# Altium footprint library BGA486N50P27X27_1400X1400X125N.PcbLib: 1 footprints
Each footprint in its own frame and in the unit in brackets; x right, y up, seen from the top. Pads: shape width x height; smd on the part's side, far side on the other; paste and mask are expansions set on the pad; w line width, h text height; cw(c..) or ccw(c..) is an arc to the next point about the centre after c.
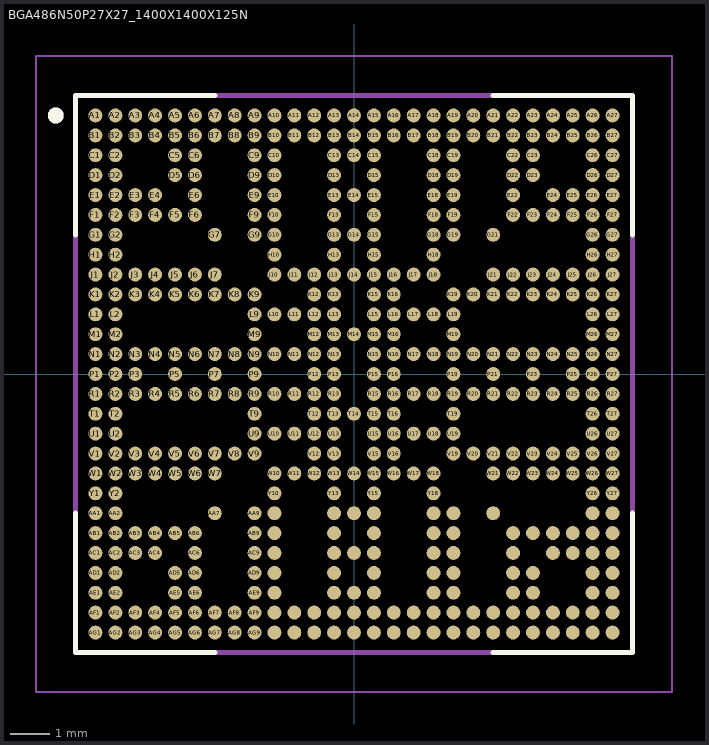
[diagram p0: the footprint, top view; thin cyan lines are the x and y axes]

## BGA486N50P27X27_1400X1400X125N [mm]
pads (486):
  round 0.35 smd: A1(-6.5,6.5) A2(-6,6.5) A3(-5.5,6.5) A4(-5,6.5) A5(-4.5,6.5) A6(-4,6.5) A7(-3.5,6.5) A8(-3,6.5) A9(-2.5,6.5) A10(-2,6.5) A11(-1.5,6.5) A12(-1,6.5) A13(-0.5,6.5) A14(0,6.5) A15(0.5,6.5) A16(1,6.5) A17(1.5,6.5) A18(2,6.5) A19(2.5,6.5) A20(3,6.5) A21(3.5,6.5) A22(4,6.5) A23(4.5,6.5) A24(5,6.5) A25(5.5,6.5) A26(6,6.5) A27(6.5,6.5) AA1(-6.5,-3.5) AA2(-6,-3.5) AA7(-3.5,-3.5) AA9(-2.5,-3.5) AA10(-2,-3.5) AA13(-0.5,-3.5) AA14(0,-3.5) AA15(0.5,-3.5) AA18(2,-3.5) AA19(2.5,-3.5) AA21(3.5,-3.5) AA26(6,-3.5) AA27(6.5,-3.5) AB1(-6.5,-4) AB2(-6,-4) AB3(-5.5,-4) AB4(-5,-4) AB5(-4.5,-4) AB6(-4,-4) AB9(-2.5,-4) AB10(-2,-4) AB13(-0.5,-4) AB15(0.5,-4) AB18(2,-4) AB19(2.5,-4) AB22(4,-4) AB23(4.5,-4) AB24(5,-4) AB25(5.5,-4) AB26(6,-4) AB27(6.5,-4) AC1(-6.5,-4.5) AC2(-6,-4.5) AC3(-5.5,-4.5) AC4(-5,-4.5) AC6(-4,-4.5) AC9(-2.5,-4.5) AC10(-2,-4.5) AC13(-0.5,-4.5) AC14(0,-4.5) AC15(0.5,-4.5) AC18(2,-4.5) AC19(2.5,-4.5) AC22(4,-4.5) AC24(5,-4.5) AC25(5.5,-4.5) AC26(6,-4.5) AC27(6.5,-4.5) AD1(-6.5,-5) AD2(-6,-5) AD5(-4.5,-5) AD6(-4,-5) AD9(-2.5,-5) AD10(-2,-5) AD13(-0.5,-5) AD15(0.5,-5) AD18(2,-5) AD19(2.5,-5) AD22(4,-5) AD23(4.5,-5) AD26(6,-5) AD27(6.5,-5) AE1(-6.5,-5.5) AE2(-6,-5.5) AE5(-4.5,-5.5) AE6(-4,-5.5) AE9(-2.5,-5.5) AE10(-2,-5.5) AE13(-0.5,-5.5) AE14(0,-5.5) AE15(0.5,-5.5) AE18(2,-5.5) AE19(2.5,-5.5) AE22(4,-5.5) AE23(4.5,-5.5) AE26(6,-5.5) AE27(6.5,-5.5) AF1(-6.5,-6) AF2(-6,-6) AF3(-5.5,-6) AF4(-5,-6) AF5(-4.5,-6) AF6(-4,-6) AF7(-3.5,-6) AF8(-3,-6) AF9(-2.5,-6) AF10(-2,-6) AF11(-1.5,-6) AF12(-1,-6) AF13(-0.5,-6) AF14(0,-6) AF15(0.5,-6) AF16(1,-6) AF17(1.5,-6) AF18(2,-6) AF19(2.5,-6) AF20(3,-6) AF21(3.5,-6) AF22(4,-6) AF23(4.5,-6) AF24(5,-6) AF25(5.5,-6) AF26(6,-6) AF27(6.5,-6) AG1(-6.5,-6.5) AG2(-6,-6.5) AG3(-5.5,-6.5) AG4(-5,-6.5) AG5(-4.5,-6.5) AG6(-4,-6.5) AG7(-3.5,-6.5) AG8(-3,-6.5) AG9(-2.5,-6.5) AG10(-2,-6.5) AG11(-1.5,-6.5) AG12(-1,-6.5) AG13(-0.5,-6.5) AG14(0,-6.5) AG15(0.5,-6.5) AG16(1,-6.5) AG17(1.5,-6.5) AG18(2,-6.5) AG19(2.5,-6.5) AG20(3,-6.5) AG21(3.5,-6.5) AG22(4,-6.5) AG23(4.5,-6.5) AG24(5,-6.5) AG25(5.5,-6.5) AG26(6,-6.5) AG27(6.5,-6.5) B1(-6.5,6) B2(-6,6) B3(-5.5,6) B4(-5,6) B5(-4.5,6) B6(-4,6) B7(-3.5,6) B8(-3,6) B9(-2.5,6) B10(-2,6) B11(-1.5,6) B12(-1,6) B13(-0.5,6) B14(0,6) B15(0.5,6) B16(1,6) B17(1.5,6) B18(2,6) B19(2.5,6) B20(3,6) B21(3.5,6) B22(4,6) B23(4.5,6) B24(5,6) B25(5.5,6) B26(6,6) B27(6.5,6) C1(-6.5,5.5) C2(-6,5.5) C5(-4.5,5.5) C6(-4,5.5) C9(-2.5,5.5) C10(-2,5.5) C13(-0.5,5.5) C14(0,5.5) C15(0.5,5.5) C18(2,5.5) C19(2.5,5.5) C22(4,5.5) C23(4.5,5.5) C26(6,5.5) C27(6.5,5.5) D1(-6.5,5) D2(-6,5) D5(-4.5,5) D6(-4,5) D9(-2.5,5) D10(-2,5) D13(-0.5,5) D15(0.5,5) D18(2,5) D19(2.5,5) D22(4,5) D23(4.5,5) D26(6,5) D27(6.5,5) E1(-6.5,4.5) E2(-6,4.5) E3(-5.5,4.5) E4(-5,4.5) E6(-4,4.5) E9(-2.5,4.5) E10(-2,4.5) E13(-0.5,4.5) E14(0,4.5) E15(0.5,4.5) E18(2,4.5) E19(2.5,4.5) E22(4,4.5) E24(5,4.5) E25(5.5,4.5) E26(6,4.5) E27(6.5,4.5) F1(-6.5,4) F2(-6,4) F3(-5.5,4) F4(-5,4) F5(-4.5,4) F6(-4,4) F9(-2.5,4) F10(-2,4) F13(-0.5,4) F15(0.5,4) F18(2,4) F19(2.5,4) F22(4,4) F23(4.5,4) F24(5,4) F25(5.5,4) F26(6,4) F27(6.5,4) G1(-6.5,3.5) G2(-6,3.5) G7(-3.5,3.5) G9(-2.5,3.5) G10(-2,3.5) G13(-0.5,3.5) G14(0,3.5) G15(0.5,3.5) G18(2,3.5) G19(2.5,3.5) G21(3.5,3.5) G26(6,3.5) G27(6.5,3.5) H1(-6.5,3) H2(-6,3) H10(-2,3) H13(-0.5,3) H15(0.5,3) H18(2,3) H26(6,3) H27(6.5,3) J1(-6.5,2.5) J2(-6,2.5) J3(-5.5,2.5) J4(-5,2.5) J5(-4.5,2.5) J6(-4,2.5) J7(-3.5,2.5) J10(-2,2.5) J11(-1.5,2.5) J12(-1,2.5) J13(-0.5,2.5) J14(0,2.5) J15(0.5,2.5) J16(1,2.5) J17(1.5,2.5) J18(2,2.5) J21(3.5,2.5) J22(4,2.5) J23(4.5,2.5) J24(5,2.5) J25(5.5,2.5) J26(6,2.5) J27(6.5,2.5) K1(-6.5,2) K2(-6,2) K3(-5.5,2) K4(-5,2) K5(-4.5,2) K6(-4,2) K7(-3.5,2) K8(-3,2) K9(-2.5,2) K12(-1,2) K13(-0.5,2) K15(0.5,2) K16(1,2) K19(2.5,2) K20(3,2) K21(3.5,2) K22(4,2) K23(4.5,2) K24(5,2) K25(5.5,2) K26(6,2) K27(6.5,2) L1(-6.5,1.5) L2(-6,1.5) L9(-2.5,1.5) L10(-2,1.5) L11(-1.5,1.5) L12(-1,1.5) L13(-0.5,1.5) L15(0.5,1.5) L16(1,1.5) L17(1.5,1.5) L18(2,1.5) L19(2.5,1.5) L26(6,1.5) L27(6.5,1.5) M1(-6.5,1) M2(-6,1) M9(-2.5,1) M12(-1,1) M13(-0.5,1) M14(0,1) M15(0.5,1) M16(1,1) M19(2.5,1) M26(6,1) M27(6.5,1) N1(-6.5,0.5) N2(-6,0.5) N3(-5.5,0.5) N4(-5,0.5) N5(-4.5,0.5) N6(-4,0.5) N7(-3.5,0.5) N8(-3,0.5) N9(-2.5,0.5) N10(-2,0.5) N11(-1.5,0.5) N12(-1,0.5) N13(-0.5,0.5) N15(0.5,0.5) N16(1,0.5) N17(1.5,0.5) N18(2,0.5) N19(2.5,0.5) N20(3,0.5) N21(3.5,0.5) N22(4,0.5) N23(4.5,0.5) N24(5,0.5) N25(5.5,0.5) N26(6,0.5) N27(6.5,0.5) P1(-6.5,0) P2(-6,0) P3(-5.5,0) P5(-4.5,0) P7(-3.5,0) P9(-2.5,0) P12(-1,0) P13(-0.5,0) P15(0.5,0) P16(1,0) P19(2.5,0) P21(3.5,0) P23(4.5,0) P25(5.5,0) P26(6,0) P27(6.5,0) R1(-6.5,-0.5) R2(-6,-0.5) R3(-5.5,-0.5) R4(-5,-0.5) R5(-4.5,-0.5) R6(-4,-0.5) R7(-3.5,-0.5) R8(-3,-0.5) R9(-2.5,-0.5) R10(-2,-0.5) R11(-1.5,-0.5) R12(-1,-0.5) R13(-0.5,-0.5) R15(0.5,-0.5) R16(1,-0.5) R17(1.5,-0.5) R18(2,-0.5) R19(2.5,-0.5) R20(3,-0.5) R21(3.5,-0.5) R22(4,-0.5) R23(4.5,-0.5) R24(5,-0.5) R25(5.5,-0.5) R26(6,-0.5) R27(6.5,-0.5) T1(-6.5,-1) T2(-6,-1) T9(-2.5,-1) T12(-1,-1) T13(-0.5,-1) T14(0,-1) T15(0.5,-1) T16(1,-1) T19(2.5,-1) T26(6,-1) T27(6.5,-1) U1(-6.5,-1.5) U2(-6,-1.5) U9(-2.5,-1.5) U10(-2,-1.5) U11(-1.5,-1.5) U12(-1,-1.5) U13(-0.5,-1.5) U15(0.5,-1.5) U16(1,-1.5) U17(1.5,-1.5) U18(2,-1.5) U19(2.5,-1.5) U26(6,-1.5) U27(6.5,-1.5) V1(-6.5,-2) V2(-6,-2) V3(-5.5,-2) V4(-5,-2) V5(-4.5,-2) V6(-4,-2) V7(-3.5,-2) V8(-3,-2) V9(-2.5,-2) V12(-1,-2) V13(-0.5,-2) V15(0.5,-2) V16(1,-2) V19(2.5,-2) V20(3,-2) V21(3.5,-2) V22(4,-2) V23(4.5,-2) V24(5,-2) V25(5.5,-2) V26(6,-2) V27(6.5,-2) W1(-6.5,-2.5) W2(-6,-2.5) W3(-5.5,-2.5) W4(-5,-2.5) W5(-4.5,-2.5) W6(-4,-2.5) W7(-3.5,-2.5) W10(-2,-2.5) W11(-1.5,-2.5) W12(-1,-2.5) W13(-0.5,-2.5) W14(0,-2.5) W15(0.5,-2.5) W16(1,-2.5) W17(1.5,-2.5) W18(2,-2.5) W21(3.5,-2.5) W22(4,-2.5) W23(4.5,-2.5) W24(5,-2.5) W25(5.5,-2.5) W26(6,-2.5) W27(6.5,-2.5) Y1(-6.5,-3) Y2(-6,-3) Y10(-2,-3) Y13(-0.5,-3) Y15(0.5,-3) Y18(2,-3) Y26(6,-3) Y27(6.5,-3)
Top Overlay:
  circle w0.2: c-7.5,6.5 r0.1
  lines w0.127: -7,-3.5 -7,-7 -3.5,-7 ; -7,3.5 -7,7 -3.5,7 ; 3.5,-7 7,-7 7,-3.5 ; 3.5,7 7,7 7,3.5
Mechanical 13:
  circle w0.2: c-7.5,6.5 r0.1
  lines w0.127: -7,-7 7,-7 7,7 -7,7 -7,-7
Mechanical 15:
  lines w0.05: -8,-8 8,-8 8,8 -8,8 -8,-8